# EAGLE library part OPA_OP747 (library akita)
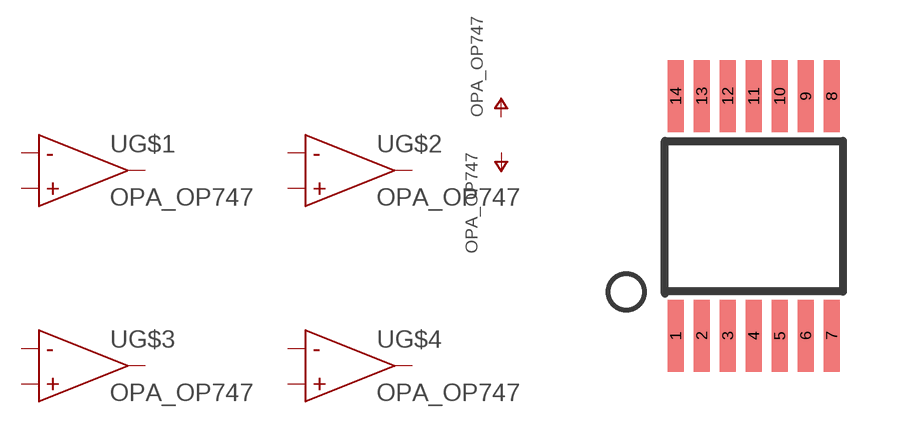
[diagram p87: symbol with the pads of TSSOP14; footprint TSSOP14]

Designator prefix -; gates G$1=OPA_SGL_NOPOW G$2=OPA_SGL_NOPOW G$3=OPA_SGL_NOPOW G$4=OPA_SGL_NOPOW G$5=POW_V+ G$6=POW_V-

## OPA_OP747  [TSSOP14]
1  G$1:VO
2  G$1:INM
3  G$1:INP
4  G$5:V+  sup
5  G$2:INP
6  G$2:INM
7  G$2:VO
8  G$3:VO
9  G$3:INP
10  G$3:INM
11  G$6:V-  sup
12  G$4:INP
13  G$4:INM
14  G$4:VO

## Footprint TSSOP14 (pad centres in mm)
smd 0.4 x 1.8: 1 -1.625,-3; 2 -0.975,-3; 3 -0.325,-3; 4 0.325,-3; 5 0.975,-3; 6 1.625,-3; 7 2.275,-3; 8 2.275,3; 9 1.625,3; 10 0.975,3; 11 0.325,3; 12 -0.325,3; 13 -0.975,3; 14 -1.625,3